# Altium footprint library 25-Pcblib_Fuse.PcbLib: 9 footprints
Each footprint in its own frame and in the unit in brackets; x right, y up, seen from the top. Pads: shape width x height; smd on the part's side, far side on the other; paste and mask are expansions set on the pad; w line width, h text height; cw(c..) or ccw(c..) is an arc to the next point about the centre after c.
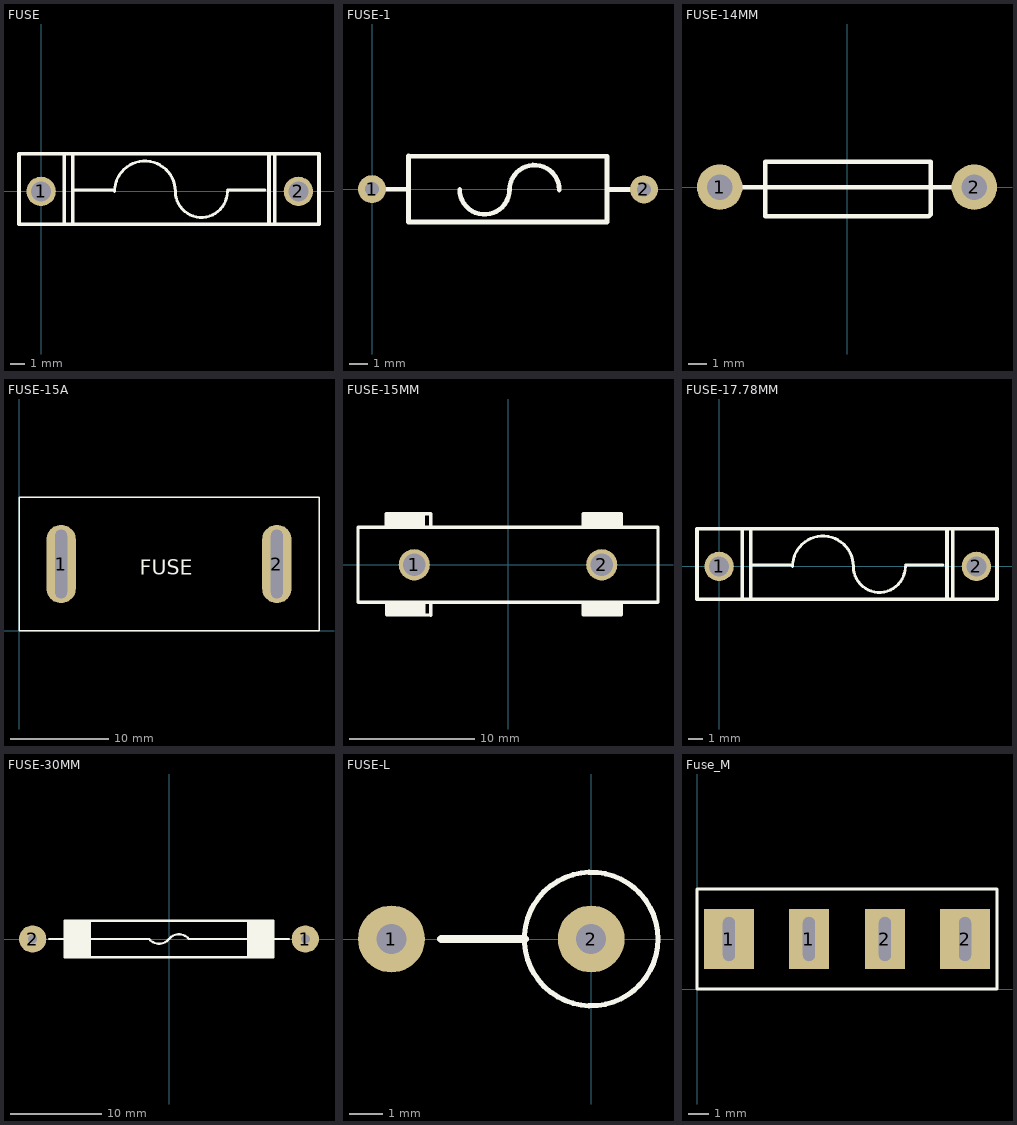
[diagram p0: the footprints below, top view; thin cyan lines are the x and y axes]

## FUSE [mil]
pads (2):
  round 80 hole 55.12: 1(0,0) 2(700,0)
Top Overlay:
  lines w7.87: 85.67,3.94 199.84,3.94 ; 199.84,0 cw(c282.52,0) 365.2,0 ccw(c436.06,0) 506.93,0 ; 506.93,3.94 609.29,3.94
  lines w10: 63,102 63,-89 756,-89 ; 67,102 756,102 ; 86,-83 86,102 ; 620,-89 620,100 ; 636,-89 636,102 ; 756,-89 756,102 ; 756,-89 -60,-89 -60,102 756,102
3D body: height 216.54, standoff -118.11, extent -17.72,-100 717.72,96.85

## FUSE-1 [mil]
pads (2):
  round 60 hole 30: 1(0,0) 2(582.68,-0.39)
Top Overlay:
  lines w10: -0.39,-0.39 78.35,-0.39 ; 78.35,71.26 78.35,-70.47 ; 187.7,-0.75 ccw(c241.09,-0.75) 294.49,-1.18 cw(c347.88,-1.61) 401.28,-1.61 ; 503.54,-0.79 582.28,-0.79 ; 78.35,-70.47 503.54,-70.47 503.54,69.92 cw(c504.89,69.92) 503.94,70.87 78.35,70.87 78.35,-70.47

## FUSE-14MM [mm]
height 5.08
pads (2):
  round 2.5 hole 1.4: 1(-7,0) 2(7,0)
Top Overlay:
  lines w0.254: -7,0 7,0 ; -4.5,-1.6 -4.5,1.4 4.6,1.4 4.6,-1.5 4.5,-1.6 -4.4,-1.6

## FUSE-15A [mm]
pads (2):
  oval 3x8 hole 1.2 slot 7 at 90 deg: 1(4.3,6.8) 2(26.3,6.8)
Top Overlay:
  lines w0.152: 0,0 30.6,0 30.6,13.6 0,13.6 0,0
  text "FUSE" at 12.319,5.715 h1.52

## FUSE-15MM [mm]
height 6
pads (2):
  round 2.5 hole 1.8: 1(-7.5,0) 2(7.5,0)
Top Overlay:
  rectangle: 6.006,3.048 9.054,4.077
  rectangle: 6.069,-4.013 9.117,-2.984
  rectangle: -9.679,3.137 -6.631,4.166
  rectangle: -9.666,-3.94 -6.618,-2.911
  lines w0.254: -9.742,3.061 -9.742,4.077 -6.186,4.077 -6.186,3.061 ; -9.728,-3 -9.728,-4.016 -6.172,-4.016 ; -6.186,-4.039 -6.186,-3.023 ; 6.006,-2.997 6.006,-4.013 9.054,-4.013 ; 6.006,3.048 6.006,4.077 9.054,4.077 9.054,3.048 ; 9.054,-4.026 9.054,-3.023 ; -12,-3 12,-3 12,3 -12,3 -12,-3
3D body: height 8.55, standoff 3.45, extent -9.373,-2.489 10.327,2.611
3D body: height 10.5, standoff -2.87, extent -12.251,-4.75 12.149,4.65

## FUSE-17.78MM [mil]
pads (2):
  round 80 hole 55.12: 1(0,0) 2(700,0)
Top Overlay:
  lines w7.87: 85.67,3.94 199.84,3.94 ; 199.84,0 cw(c282.52,0) 365.2,0 ccw(c436.06,0) 506.93,0 ; 506.93,3.94 609.29,3.94
  lines w10: 63,102 63,-89 756,-89 ; 67,102 756,102 ; 86,-83 86,102 ; 620,-89 620,100 ; 636,-89 636,102 ; 756,-89 756,102 ; 756,-89 -60,-89 -60,102 756,102

## FUSE-30MM [mm]
height 10
pads (2):
  round 3 hole 1: 1(15,0) 2(-15,0)
Top Overlay:
  rectangle: -11.5,-2.025 -8.579,2
  region: 11.5,2 8.579,2 8.579,-2.025 11.5,-2.025
  lines w0.254: -13.208,0 -11.684,0 ; -11.176,0 -2.179,0 ; -2.179,-0.007 ccw(c-1.092,0.889) 0,0 cw(c1.092,-0.889) 2.179,0.007 ; 2.179,0 3.607,0 ; 3.529,0.004 10.668,0 ; 11.684,0 13.208,0 ; -11.5,-2 -11.5,2 11.5,2 11.5,-2 -11.5,-2
3D body: height 5, standoff 0, extent -10.262,-2.515 9.738,2.485

## FUSE-L [mil]
height 511.81
pads (2):
  round 79 hole 35.43: 1(-236.22,0) 2(0,0)
Top Overlay:
  circle w6: c0,0 r79
  lines w10: -177.17,0 -78.74,0
3D body: height 545.04, standoff -77.66, extent -249.02,-74.21 77.68,83.27

## Fuse_M [mm]
pads (4):
  rect 2.5x3 hole 0.6 slot 2.2 at 90 deg: 1(1.6,2.5) 2(13.4,2.5)
  rect 2x3 hole 0.6 slot 2.2 at 90 deg: 1(5.6,2.5) 2(9.4,2.5)
Top Overlay:
  lines w0.152: 0,0 15,0 15,5 0,5 0,0